# Altium footprint library fpga.PcbLib: 4 footprints (part 2 of 2)
Each footprint in its own frame and in the unit in brackets; x right, y up, seen from the top. Pads: shape width x height; smd on the part's side, far side on the other; paste and mask are expansions set on the pad; w line width, h text height; cw(c..) or ccw(c..) is an arc to the next point about the centre after c.
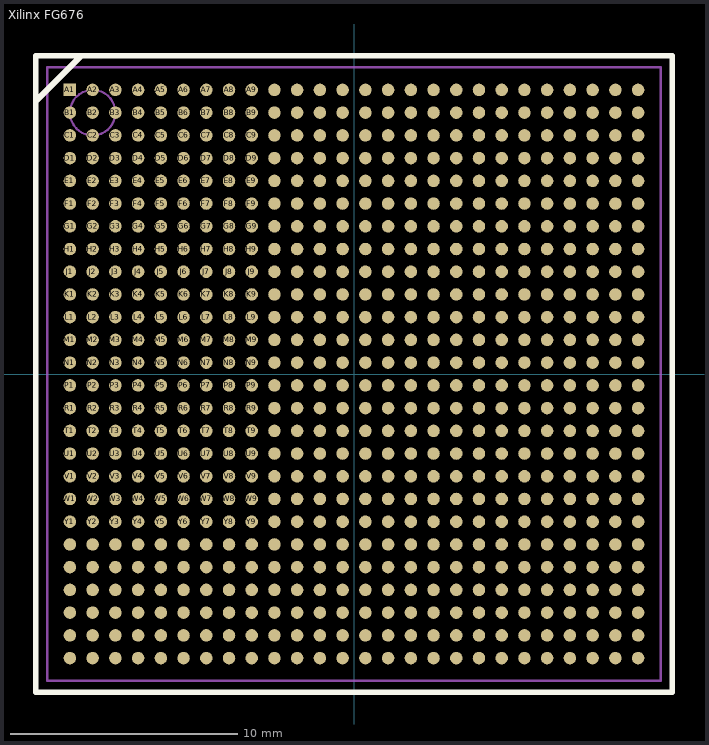
[diagram p1: the footprint, top view; thin cyan lines are the x and y axes]

## Xilinx FG676 [mm]
height 2.2
pads (676):
  rect 0.55x0.55 smd paste-0.05 mask-0.05: A1(-12.5,12.5)
  round 0.55 smd paste-0.05 mask-0.05: A2(-11.5,12.5) A3(-10.5,12.5) A4(-9.5,12.5) A5(-8.5,12.5) A6(-7.5,12.5) A7(-6.5,12.5) A8(-5.5,12.5) A9(-4.5,12.5) A10(-3.5,12.5) A11(-2.5,12.5) A12(-1.5,12.5) A13(-0.5,12.5) A14(0.5,12.5) A15(1.5,12.5) A16(2.5,12.5) A17(3.5,12.5) A18(4.5,12.5) A19(5.5,12.5) A20(6.5,12.5) A21(7.5,12.5) A22(8.5,12.5) A23(9.5,12.5) A24(10.5,12.5) A25(11.5,12.5) A26(12.5,12.5) AA1(-12.5,-7.5) AA2(-11.5,-7.5) AA3(-10.5,-7.5) AA4(-9.5,-7.5) AA5(-8.5,-7.5) AA6(-7.5,-7.5) AA7(-6.5,-7.5) AA8(-5.5,-7.5) AA9(-4.5,-7.5) AA10(-3.5,-7.5) AA11(-2.5,-7.5) AA12(-1.5,-7.5) AA13(-0.5,-7.5) AA14(0.5,-7.5) AA15(1.5,-7.5) AA16(2.5,-7.5) AA17(3.5,-7.5) AA18(4.5,-7.5) AA19(5.5,-7.5) AA20(6.5,-7.5) AA21(7.5,-7.5) AA22(8.5,-7.5) AA23(9.5,-7.5) AA24(10.5,-7.5) AA25(11.5,-7.5) AA26(12.5,-7.5) AB1(-12.5,-8.5) AB2(-11.5,-8.5) AB3(-10.5,-8.5) AB4(-9.5,-8.5) AB5(-8.5,-8.5) AB6(-7.5,-8.5) AB7(-6.5,-8.5) AB8(-5.5,-8.5) AB9(-4.5,-8.5) AB10(-3.5,-8.5) AB11(-2.5,-8.5) AB12(-1.5,-8.5) AB13(-0.5,-8.5) AB14(0.5,-8.5) AB15(1.5,-8.5) AB16(2.5,-8.5) AB17(3.5,-8.5) AB18(4.5,-8.5) AB19(5.5,-8.5) AB20(6.5,-8.5) AB21(7.5,-8.5) AB22(8.5,-8.5) AB23(9.5,-8.5) AB24(10.5,-8.5) AB25(11.5,-8.5) AB26(12.5,-8.5) AC1(-12.5,-9.5) AC2(-11.5,-9.5) AC3(-10.5,-9.5) AC4(-9.5,-9.5) AC5(-8.5,-9.5) AC6(-7.5,-9.5) AC7(-6.5,-9.5) AC8(-5.5,-9.5) AC9(-4.5,-9.5) AC10(-3.5,-9.5) AC11(-2.5,-9.5) AC12(-1.5,-9.5) AC13(-0.5,-9.5) AC14(0.5,-9.5) AC15(1.5,-9.5) AC16(2.5,-9.5) AC17(3.5,-9.5) AC18(4.5,-9.5) AC19(5.5,-9.5) AC20(6.5,-9.5) AC21(7.5,-9.5) AC22(8.5,-9.5) AC23(9.5,-9.5) AC24(10.5,-9.5) AC25(11.5,-9.5) AC26(12.5,-9.5) AD1(-12.5,-10.5) AD2(-11.5,-10.5) AD3(-10.5,-10.5) AD4(-9.5,-10.5) AD5(-8.5,-10.5) AD6(-7.5,-10.5) AD7(-6.5,-10.5) AD8(-5.5,-10.5) AD9(-4.5,-10.5) AD10(-3.5,-10.5) AD11(-2.5,-10.5) AD12(-1.5,-10.5) AD13(-0.5,-10.5) AD14(0.5,-10.5) AD15(1.5,-10.5) AD16(2.5,-10.5) AD17(3.5,-10.5) AD18(4.5,-10.5) AD19(5.5,-10.5) AD20(6.5,-10.5) AD21(7.5,-10.5) AD22(8.5,-10.5) AD23(9.5,-10.5) AD24(10.5,-10.5) AD25(11.5,-10.5) AD26(12.5,-10.5) AE1(-12.5,-11.5) AE2(-11.5,-11.5) AE3(-10.5,-11.5) AE4(-9.5,-11.5) AE5(-8.5,-11.5) AE6(-7.5,-11.5) AE7(-6.5,-11.5) AE8(-5.5,-11.5) AE9(-4.5,-11.5) AE10(-3.5,-11.5) AE11(-2.5,-11.5) AE12(-1.5,-11.5) AE13(-0.5,-11.5) AE14(0.5,-11.5) AE15(1.5,-11.5) AE16(2.5,-11.5) AE17(3.5,-11.5) AE18(4.5,-11.5) AE19(5.5,-11.5) AE20(6.5,-11.5) AE21(7.5,-11.5) AE22(8.5,-11.5) AE23(9.5,-11.5) AE24(10.5,-11.5) AE25(11.5,-11.5) AE26(12.5,-11.5) AF1(-12.5,-12.5) AF2(-11.5,-12.5) AF3(-10.5,-12.5) AF4(-9.5,-12.5) AF5(-8.5,-12.5) AF6(-7.5,-12.5) AF7(-6.5,-12.5) AF8(-5.5,-12.5) AF9(-4.5,-12.5) AF10(-3.5,-12.5) AF11(-2.5,-12.5) AF12(-1.5,-12.5) AF13(-0.5,-12.5) AF14(0.5,-12.5) AF15(1.5,-12.5) AF16(2.5,-12.5) AF17(3.5,-12.5) AF18(4.5,-12.5) AF19(5.5,-12.5) AF20(6.5,-12.5) AF21(7.5,-12.5) AF22(8.5,-12.5) AF23(9.5,-12.5) AF24(10.5,-12.5) AF25(11.5,-12.5) AF26(12.5,-12.5) B1(-12.5,11.5) B2(-11.5,11.5) B3(-10.5,11.5) B4(-9.5,11.5) B5(-8.5,11.5) B6(-7.5,11.5) B7(-6.5,11.5) B8(-5.5,11.5) B9(-4.5,11.5) B10(-3.5,11.5) B11(-2.5,11.5) B12(-1.5,11.5) B13(-0.5,11.5) B14(0.5,11.5) B15(1.5,11.5) B16(2.5,11.5) B17(3.5,11.5) B18(4.5,11.5) B19(5.5,11.5) B20(6.5,11.5) B21(7.5,11.5) B22(8.5,11.5) B23(9.5,11.5) B24(10.5,11.5) B25(11.5,11.5) B26(12.5,11.5) C1(-12.5,10.5) C2(-11.5,10.5) C3(-10.5,10.5) C4(-9.5,10.5) C5(-8.5,10.5) C6(-7.5,10.5) C7(-6.5,10.5) C8(-5.5,10.5) C9(-4.5,10.5) C10(-3.5,10.5) C11(-2.5,10.5) C12(-1.5,10.5) C13(-0.5,10.5) C14(0.5,10.5) C15(1.5,10.5) C16(2.5,10.5) C17(3.5,10.5) C18(4.5,10.5) C19(5.5,10.5) C20(6.5,10.5) C21(7.5,10.5) C22(8.5,10.5) C23(9.5,10.5) C24(10.5,10.5) C25(11.5,10.5) C26(12.5,10.5) D1(-12.5,9.5) D2(-11.5,9.5) D3(-10.5,9.5) D4(-9.5,9.5) D5(-8.5,9.5) D6(-7.5,9.5) D7(-6.5,9.5) D8(-5.5,9.5) D9(-4.5,9.5) D10(-3.5,9.5) D11(-2.5,9.5) D12(-1.5,9.5) D13(-0.5,9.5) D14(0.5,9.5) D15(1.5,9.5) D16(2.5,9.5) D17(3.5,9.5) D18(4.5,9.5) D19(5.5,9.5) D20(6.5,9.5) D21(7.5,9.5) D22(8.5,9.5) D23(9.5,9.5) D24(10.5,9.5) D25(11.5,9.5) D26(12.5,9.5) E1(-12.5,8.5) E2(-11.5,8.5) E3(-10.5,8.5) E4(-9.5,8.5) E5(-8.5,8.5) E6(-7.5,8.5) E7(-6.5,8.5) E8(-5.5,8.5) E9(-4.5,8.5) E10(-3.5,8.5) E11(-2.5,8.5) E12(-1.5,8.5) E13(-0.5,8.5) E14(0.5,8.5) E15(1.5,8.5) E16(2.5,8.5) E17(3.5,8.5) E18(4.5,8.5) E19(5.5,8.5) E20(6.5,8.5) E21(7.5,8.5) E22(8.5,8.5) E23(9.5,8.5) E24(10.5,8.5) E25(11.5,8.5) E26(12.5,8.5) F1(-12.5,7.5) F2(-11.5,7.5) F3(-10.5,7.5) F4(-9.5,7.5) F5(-8.5,7.5) F6(-7.5,7.5) F7(-6.5,7.5) F8(-5.5,7.5) F9(-4.5,7.5) F10(-3.5,7.5) F11(-2.5,7.5) F12(-1.5,7.5) F13(-0.5,7.5) F14(0.5,7.5) F15(1.5,7.5) F16(2.5,7.5) F17(3.5,7.5) F18(4.5,7.5) F19(5.5,7.5) F20(6.5,7.5) F21(7.5,7.5) F22(8.5,7.5) F23(9.5,7.5) F24(10.5,7.5) F25(11.5,7.5) F26(12.5,7.5) G1(-12.5,6.5) G2(-11.5,6.5) G3(-10.5,6.5) G4(-9.5,6.5) G5(-8.5,6.5) G6(-7.5,6.5) G7(-6.5,6.5) G8(-5.5,6.5) G9(-4.5,6.5) G10(-3.5,6.5) G11(-2.5,6.5) G12(-1.5,6.5) G13(-0.5,6.5) G14(0.5,6.5) G15(1.5,6.5) G16(2.5,6.5) G17(3.5,6.5) G18(4.5,6.5) G19(5.5,6.5) G20(6.5,6.5) G21(7.5,6.5) G22(8.5,6.5) G23(9.5,6.5) G24(10.5,6.5) G25(11.5,6.5) G26(12.5,6.5) H1(-12.5,5.5) H2(-11.5,5.5) H3(-10.5,5.5) H4(-9.5,5.5) H5(-8.5,5.5) H6(-7.5,5.5) H7(-6.5,5.5) H8(-5.5,5.5) H9(-4.5,5.5) H10(-3.5,5.5) H11(-2.5,5.5) H12(-1.5,5.5) H13(-0.5,5.5) H14(0.5,5.5) H15(1.5,5.5) H16(2.5,5.5) H17(3.5,5.5) H18(4.5,5.5) H19(5.5,5.5) H20(6.5,5.5) H21(7.5,5.5) H22(8.5,5.5) H23(9.5,5.5) H24(10.5,5.5) H25(11.5,5.5) H26(12.5,5.5) J1(-12.5,4.5) J2(-11.5,4.5) J3(-10.5,4.5) J4(-9.5,4.5) J5(-8.5,4.5) J6(-7.5,4.5) J7(-6.5,4.5) J8(-5.5,4.5) J9(-4.5,4.5) J10(-3.5,4.5) J11(-2.5,4.5) J12(-1.5,4.5) J13(-0.5,4.5) J14(0.5,4.5) J15(1.5,4.5) J16(2.5,4.5) J17(3.5,4.5) J18(4.5,4.5) J19(5.5,4.5) J20(6.5,4.5) J21(7.5,4.5) J22(8.5,4.5) J23(9.5,4.5) J24(10.5,4.5) J25(11.5,4.5) J26(12.5,4.5) K1(-12.5,3.5) K2(-11.5,3.5) K3(-10.5,3.5) K4(-9.5,3.5) K5(-8.5,3.5) K6(-7.5,3.5) K7(-6.5,3.5) K8(-5.5,3.5) K9(-4.5,3.5) K10(-3.5,3.5) K11(-2.5,3.5) K12(-1.5,3.5) K13(-0.5,3.5) K14(0.5,3.5) K15(1.5,3.5) K16(2.5,3.5) K17(3.5,3.5) K18(4.5,3.5) K19(5.5,3.5) K20(6.5,3.5) K21(7.5,3.5) K22(8.5,3.5) K23(9.5,3.5) K24(10.5,3.5) K25(11.5,3.5) K26(12.5,3.5) L1(-12.5,2.5) L2(-11.5,2.5) L3(-10.5,2.5) L4(-9.5,2.5) L5(-8.5,2.5) L6(-7.5,2.5) L7(-6.5,2.5) L8(-5.5,2.5) L9(-4.5,2.5) L10(-3.5,2.5) L11(-2.5,2.5) L12(-1.5,2.5) L13(-0.5,2.5) L14(0.5,2.5) L15(1.5,2.5) L16(2.5,2.5) L17(3.5,2.5) L18(4.5,2.5) L19(5.5,2.5) L20(6.5,2.5) L21(7.5,2.5) L22(8.5,2.5) L23(9.5,2.5) L24(10.5,2.5) L25(11.5,2.5) L26(12.5,2.5) M1(-12.5,1.5) M2(-11.5,1.5) M3(-10.5,1.5) M4(-9.5,1.5) M5(-8.5,1.5) M6(-7.5,1.5) M7(-6.5,1.5) M8(-5.5,1.5) M9(-4.5,1.5) M10(-3.5,1.5) M11(-2.5,1.5) M12(-1.5,1.5) M13(-0.5,1.5) M14(0.5,1.5) M15(1.5,1.5) M16(2.5,1.5) M17(3.5,1.5) M18(4.5,1.5) M19(5.5,1.5) M20(6.5,1.5) M21(7.5,1.5) M22(8.5,1.5) M23(9.5,1.5) M24(10.5,1.5) M25(11.5,1.5) M26(12.5,1.5) N1(-12.5,0.5) N2(-11.5,0.5) N3(-10.5,0.5) N4(-9.5,0.5) N5(-8.5,0.5) N6(-7.5,0.5) N7(-6.5,0.5) N8(-5.5,0.5) N9(-4.5,0.5) N10(-3.5,0.5) N11(-2.5,0.5) N12(-1.5,0.5) N13(-0.5,0.5) N14(0.5,0.5) N15(1.5,0.5) N16(2.5,0.5) N17(3.5,0.5) N18(4.5,0.5) N19(5.5,0.5) N20(6.5,0.5) N21(7.5,0.5) N22(8.5,0.5) N23(9.5,0.5) N24(10.5,0.5) N25(11.5,0.5) N26(12.5,0.5) P1(-12.5,-0.5) P2(-11.5,-0.5) P3(-10.5,-0.5) P4(-9.5,-0.5) P5(-8.5,-0.5) P6(-7.5,-0.5) P7(-6.5,-0.5) P8(-5.5,-0.5) P9(-4.5,-0.5) P10(-3.5,-0.5) P11(-2.5,-0.5) P12(-1.5,-0.5) P13(-0.5,-0.5) P14(0.5,-0.5) P15(1.5,-0.5) P16(2.5,-0.5) P17(3.5,-0.5) P18(4.5,-0.5) P19(5.5,-0.5) P20(6.5,-0.5) P21(7.5,-0.5) P22(8.5,-0.5) P23(9.5,-0.5) P24(10.5,-0.5) P25(11.5,-0.5) P26(12.5,-0.5) R1(-12.5,-1.5) R2(-11.5,-1.5) R3(-10.5,-1.5) R4(-9.5,-1.5) R5(-8.5,-1.5) R6(-7.5,-1.5) R7(-6.5,-1.5) R8(-5.5,-1.5) R9(-4.5,-1.5) R10(-3.5,-1.5) R11(-2.5,-1.5) R12(-1.5,-1.5) R13(-0.5,-1.5) R14(0.5,-1.5) R15(1.5,-1.5) R16(2.5,-1.5) R17(3.5,-1.5) R18(4.5,-1.5) R19(5.5,-1.5) R20(6.5,-1.5) R21(7.5,-1.5) R22(8.5,-1.5) R23(9.5,-1.5) R24(10.5,-1.5) R25(11.5,-1.5) R26(12.5,-1.5) T1(-12.5,-2.5) T2(-11.5,-2.5) T3(-10.5,-2.5) T4(-9.5,-2.5) T5(-8.5,-2.5) T6(-7.5,-2.5) T7(-6.5,-2.5) T8(-5.5,-2.5) T9(-4.5,-2.5) T10(-3.5,-2.5) T11(-2.5,-2.5) T12(-1.5,-2.5) T13(-0.5,-2.5) T14(0.5,-2.5) T15(1.5,-2.5) T16(2.5,-2.5) T17(3.5,-2.5) T18(4.5,-2.5) T19(5.5,-2.5) T20(6.5,-2.5) T21(7.5,-2.5) T22(8.5,-2.5) T23(9.5,-2.5) T24(10.5,-2.5) T25(11.5,-2.5) T26(12.5,-2.5) U1(-12.5,-3.5) U2(-11.5,-3.5) U3(-10.5,-3.5) U4(-9.5,-3.5) U5(-8.5,-3.5) U6(-7.5,-3.5) U7(-6.5,-3.5) U8(-5.5,-3.5) U9(-4.5,-3.5) U10(-3.5,-3.5) U11(-2.5,-3.5) U12(-1.5,-3.5) U13(-0.5,-3.5) U14(0.5,-3.5) U15(1.5,-3.5) U16(2.5,-3.5) U17(3.5,-3.5) U18(4.5,-3.5) U19(5.5,-3.5) U20(6.5,-3.5) U21(7.5,-3.5) U22(8.5,-3.5) U23(9.5,-3.5) U24(10.5,-3.5) U25(11.5,-3.5) U26(12.5,-3.5) V1(-12.5,-4.5) V2(-11.5,-4.5) V3(-10.5,-4.5) V4(-9.5,-4.5) V5(-8.5,-4.5) V6(-7.5,-4.5) V7(-6.5,-4.5) V8(-5.5,-4.5) V9(-4.5,-4.5) V10(-3.5,-4.5) V11(-2.5,-4.5) V12(-1.5,-4.5) V13(-0.5,-4.5) V14(0.5,-4.5) V15(1.5,-4.5) V16(2.5,-4.5) V17(3.5,-4.5) V18(4.5,-4.5) V19(5.5,-4.5) V20(6.5,-4.5) V21(7.5,-4.5) V22(8.5,-4.5) V23(9.5,-4.5) V24(10.5,-4.5) V25(11.5,-4.5) V26(12.5,-4.5) W1(-12.5,-5.5) W2(-11.5,-5.5) W3(-10.5,-5.5) W4(-9.5,-5.5) W5(-8.5,-5.5) W6(-7.5,-5.5) W7(-6.5,-5.5) W8(-5.5,-5.5) W9(-4.5,-5.5) W10(-3.5,-5.5) W11(-2.5,-5.5) W12(-1.5,-5.5) W13(-0.5,-5.5) W14(0.5,-5.5) W15(1.5,-5.5) W16(2.5,-5.5) W17(3.5,-5.5) W18(4.5,-5.5) W19(5.5,-5.5) W20(6.5,-5.5) W21(7.5,-5.5) W22(8.5,-5.5) W23(9.5,-5.5) W24(10.5,-5.5) W25(11.5,-5.5) W26(12.5,-5.5) Y1(-12.5,-6.5) Y2(-11.5,-6.5) Y3(-10.5,-6.5) Y4(-9.5,-6.5) Y5(-8.5,-6.5) Y6(-7.5,-6.5) Y7(-6.5,-6.5) Y8(-5.5,-6.5) Y9(-4.5,-6.5) Y10(-3.5,-6.5) Y11(-2.5,-6.5) Y12(-1.5,-6.5) Y13(-0.5,-6.5) Y14(0.5,-6.5) Y15(1.5,-6.5) Y16(2.5,-6.5) Y17(3.5,-6.5) Y18(4.5,-6.5) Y19(5.5,-6.5) Y20(6.5,-6.5) Y21(7.5,-6.5) Y22(8.5,-6.5) Y23(9.5,-6.5) Y24(10.5,-6.5) Y25(11.5,-6.5) Y26(12.5,-6.5)
Top Overlay:
  lines w0.25: -14,12 -12,14 ; -14,-14 14,-14 14,14 -14,14 -14,-14
Top Paste:
  drawing of 676 lines, arcs and shapes, not listed
Top Solder:
  drawing of 676 lines, arcs and shapes, not listed
Mechanical 1:
  circle w0.1: c-11.5,11.5 r1
  lines w0.1: -13.5,-13.5 13.5,-13.5 13.5,13.5 -13.5,13.5 -13.5,-13.5
3D body: height 2.2, standoff 0.7, extent -11,-11 11,11
3D body: height 1, standoff 0.4, extent -13.5,-13.5 13.5,13.5
3D body: height 0.5, standoff -0.1, extent -12.797,12.201 -12.2,12.799
3D body: height 0.5, standoff -0.1, extent -11.797,12.201 -11.2,12.799
3D body: height 0.5, standoff -0.1, extent -10.797,12.201 -10.2,12.799
3D body: height 0.5, standoff -0.1, extent -9.797,12.201 -9.2,12.799
3D body: height 0.5, standoff -0.1, extent -8.797,12.201 -8.2,12.799
3D body: height 0.5, standoff -0.1, extent -7.797,12.201 -7.2,12.799
3D body: height 0.5, standoff -0.1, extent -6.797,12.201 -6.2,12.799
3D body: height 0.5, standoff -0.1, extent 0.203,12.201 0.8,12.799
3D body: height 0.5, standoff -0.1, extent -0.797,12.201 -0.2,12.799
3D body: height 0.5, standoff -0.1, extent -1.797,12.201 -1.2,12.799
3D body: height 0.5, standoff -0.1, extent -2.797,12.201 -2.2,12.799
3D body: height 0.5, standoff -0.1, extent -3.797,12.201 -3.2,12.799
3D body: height 0.5, standoff -0.1, extent -4.797,12.201 -4.2,12.799
3D body: height 0.5, standoff -0.1, extent -5.797,12.201 -5.2,12.799
3D body: height 0.5, standoff -0.1, extent 7.203,12.201 7.8,12.799
3D body: height 0.5, standoff -0.1, extent 6.203,12.201 6.8,12.799
3D body: height 0.5, standoff -0.1, extent 5.203,12.201 5.8,12.799
3D body: height 0.5, standoff -0.1, extent 4.203,12.201 4.8,12.799
3D body: height 0.5, standoff -0.1, extent 3.203,12.201 3.8,12.799
3D body: height 0.5, standoff -0.1, extent 2.203,12.201 2.8,12.799
3D body: height 0.5, standoff -0.1, extent 1.203,12.201 1.8,12.799
3D body: height 0.5, standoff -0.1, extent 12.203,12.201 12.8,12.799
3D body: height 0.5, standoff -0.1, extent 11.203,12.201 11.8,12.799
3D body: height 0.5, standoff -0.1, extent 10.203,12.201 10.8,12.799
3D body: height 0.5, standoff -0.1, extent 9.203,12.201 9.8,12.799
3D body: height 0.5, standoff -0.1, extent 8.203,12.201 8.8,12.799
3D body: height 0.5, standoff -0.1, extent 8.203,11.201 8.8,11.799
3D body: height 0.5, standoff -0.1, extent 9.203,11.201 9.8,11.799
3D body: height 0.5, standoff -0.1, extent 10.203,11.201 10.8,11.799
3D body: height 0.5, standoff -0.1, extent 11.203,11.201 11.8,11.799
3D body: height 0.5, standoff -0.1, extent 12.203,11.201 12.8,11.799
3D body: height 0.5, standoff -0.1, extent 1.203,11.201 1.8,11.799
3D body: height 0.5, standoff -0.1, extent 2.203,11.201 2.8,11.799
3D body: height 0.5, standoff -0.1, extent 3.203,11.201 3.8,11.799
3D body: height 0.5, standoff -0.1, extent 4.203,11.201 4.8,11.799
3D body: height 0.5, standoff -0.1, extent 5.203,11.201 5.8,11.799
3D body: height 0.5, standoff -0.1, extent 6.203,11.201 6.8,11.799
3D body: height 0.5, standoff -0.1, extent 7.203,11.201 7.8,11.799
3D body: height 0.5, standoff -0.1, extent -5.797,11.201 -5.2,11.799
3D body: height 0.5, standoff -0.1, extent -4.797,11.201 -4.2,11.799
3D body: height 0.5, standoff -0.1, extent -3.797,11.201 -3.2,11.799
3D body: height 0.5, standoff -0.1, extent -2.797,11.201 -2.2,11.799
3D body: height 0.5, standoff -0.1, extent -1.797,11.201 -1.2,11.799
3D body: height 0.5, standoff -0.1, extent -0.797,11.201 -0.2,11.799
3D body: height 0.5, standoff -0.1, extent 0.203,11.201 0.8,11.799
3D body: height 0.5, standoff -0.1, extent -6.797,11.201 -6.2,11.799
3D body: height 0.5, standoff -0.1, extent -7.797,11.201 -7.2,11.799
3D body: height 0.5, standoff -0.1, extent -8.797,11.201 -8.2,11.799
3D body: height 0.5, standoff -0.1, extent -9.797,11.201 -9.2,11.799
3D body: height 0.5, standoff -0.1, extent -10.797,11.201 -10.2,11.799
3D body: height 0.5, standoff -0.1, extent -11.797,11.201 -11.2,11.799
3D body: height 0.5, standoff -0.1, extent -12.797,11.201 -12.2,11.799
3D body: height 0.5, standoff -0.1, extent -12.797,9.201 -12.2,9.799
3D body: height 0.5, standoff -0.1, extent -11.797,9.201 -11.2,9.799
3D body: height 0.5, standoff -0.1, extent -10.797,9.201 -10.2,9.799
3D body: height 0.5, standoff -0.1, extent -9.797,9.201 -9.2,9.799
3D body: height 0.5, standoff -0.1, extent -8.797,9.201 -8.2,9.799
3D body: height 0.5, standoff -0.1, extent -7.797,9.201 -7.2,9.799
3D body: height 0.5, standoff -0.1, extent -6.797,9.201 -6.2,9.799
3D body: height 0.5, standoff -0.1, extent 0.203,9.201 0.8,9.799
3D body: height 0.5, standoff -0.1, extent -0.797,9.201 -0.2,9.799
3D body: height 0.5, standoff -0.1, extent -1.797,9.201 -1.2,9.799
3D body: height 0.5, standoff -0.1, extent -2.797,9.201 -2.2,9.799
3D body: height 0.5, standoff -0.1, extent -3.797,9.201 -3.2,9.799
3D body: height 0.5, standoff -0.1, extent -4.797,9.201 -4.2,9.799
3D body: height 0.5, standoff -0.1, extent -5.797,9.201 -5.2,9.799
3D body: height 0.5, standoff -0.1, extent 7.203,9.201 7.8,9.799
3D body: height 0.5, standoff -0.1, extent 6.203,9.201 6.8,9.799
3D body: height 0.5, standoff -0.1, extent 5.203,9.201 5.8,9.799
3D body: height 0.5, standoff -0.1, extent 4.203,9.201 4.8,9.799
3D body: height 0.5, standoff -0.1, extent 3.203,9.201 3.8,9.799
3D body: height 0.5, standoff -0.1, extent 2.203,9.201 2.8,9.799
3D body: height 0.5, standoff -0.1, extent 1.203,9.201 1.8,9.799
3D body: height 0.5, standoff -0.1, extent 12.203,9.201 12.8,9.799
3D body: height 0.5, standoff -0.1, extent 11.203,9.201 11.8,9.799
3D body: height 0.5, standoff -0.1, extent 10.203,9.201 10.8,9.799
3D body: height 0.5, standoff -0.1, extent 9.203,9.201 9.8,9.799
3D body: height 0.5, standoff -0.1, extent 8.203,9.201 8.8,9.799
3D body: height 0.5, standoff -0.1, extent 8.203,10.201 8.8,10.799
3D body: height 0.5, standoff -0.1, extent 9.203,10.201 9.8,10.799
3D body: height 0.5, standoff -0.1, extent 10.203,10.201 10.8,10.799
3D body: height 0.5, standoff -0.1, extent 11.203,10.201 11.8,10.799
3D body: height 0.5, standoff -0.1, extent 12.203,10.201 12.8,10.799
3D body: height 0.5, standoff -0.1, extent 1.203,10.201 1.8,10.799
3D body: height 0.5, standoff -0.1, extent 2.203,10.201 2.8,10.799
3D body: height 0.5, standoff -0.1, extent 3.203,10.201 3.8,10.799
3D body: height 0.5, standoff -0.1, extent 4.203,10.201 4.8,10.799
3D body: height 0.5, standoff -0.1, extent 5.203,10.201 5.8,10.799
3D body: height 0.5, standoff -0.1, extent 6.203,10.201 6.8,10.799
3D body: height 0.5, standoff -0.1, extent 7.203,10.201 7.8,10.799
3D body: height 0.5, standoff -0.1, extent -5.797,10.201 -5.2,10.799
3D body: height 0.5, standoff -0.1, extent -4.797,10.201 -4.2,10.799
3D body: height 0.5, standoff -0.1, extent -3.797,10.201 -3.2,10.799
3D body: height 0.5, standoff -0.1, extent -2.797,10.201 -2.2,10.799
3D body: height 0.5, standoff -0.1, extent -1.797,10.201 -1.2,10.799
3D body: height 0.5, standoff -0.1, extent -0.797,10.201 -0.2,10.799
3D body: height 0.5, standoff -0.1, extent 0.203,10.201 0.8,10.799
3D body: height 0.5, standoff -0.1, extent -6.797,10.201 -6.2,10.799
3D body: height 0.5, standoff -0.1, extent -7.797,10.201 -7.2,10.799
3D body: height 0.5, standoff -0.1, extent -8.797,10.201 -8.2,10.799
3D body: height 0.5, standoff -0.1, extent -9.797,10.201 -9.2,10.799
3D body: height 0.5, standoff -0.1, extent -10.797,10.201 -10.2,10.799
3D body: height 0.5, standoff -0.1, extent -11.797,10.201 -11.2,10.799
3D body: height 0.5, standoff -0.1, extent -12.797,10.201 -12.2,10.799
3D body: height 0.5, standoff -0.1, extent -12.797,6.201 -12.2,6.799
3D body: height 0.5, standoff -0.1, extent -11.797,6.201 -11.2,6.799
3D body: height 0.5, standoff -0.1, extent -10.797,6.201 -10.2,6.799
3D body: height 0.5, standoff -0.1, extent -9.797,6.201 -9.2,6.799
3D body: height 0.5, standoff -0.1, extent -8.797,6.201 -8.2,6.799
3D body: height 0.5, standoff -0.1, extent -7.797,6.201 -7.2,6.799
3D body: height 0.5, standoff -0.1, extent -6.797,6.201 -6.2,6.799
3D body: height 0.5, standoff -0.1, extent 0.203,6.201 0.8,6.799
3D body: height 0.5, standoff -0.1, extent -0.797,6.201 -0.2,6.799
3D body: height 0.5, standoff -0.1, extent -1.797,6.201 -1.2,6.799
3D body: height 0.5, standoff -0.1, extent -2.797,6.201 -2.2,6.799
3D body: height 0.5, standoff -0.1, extent -3.797,6.201 -3.2,6.799
3D body: height 0.5, standoff -0.1, extent -4.797,6.201 -4.2,6.799
3D body: height 0.5, standoff -0.1, extent -5.797,6.201 -5.2,6.799
3D body: height 0.5, standoff -0.1, extent 7.203,6.201 7.8,6.799
3D body: height 0.5, standoff -0.1, extent 6.203,6.201 6.8,6.799
3D body: height 0.5, standoff -0.1, extent 5.203,6.201 5.8,6.799
3D body: height 0.5, standoff -0.1, extent 4.203,6.201 4.8,6.799
3D body: height 0.5, standoff -0.1, extent 3.203,6.201 3.8,6.799
3D body: height 0.5, standoff -0.1, extent 2.203,6.201 2.8,6.799
3D body: height 0.5, standoff -0.1, extent 1.203,6.201 1.8,6.799
3D body: height 0.5, standoff -0.1, extent 12.203,6.201 12.8,6.799
3D body: height 0.5, standoff -0.1, extent 11.203,6.201 11.8,6.799
3D body: height 0.5, standoff -0.1, extent 10.203,6.201 10.8,6.799
3D body: height 0.5, standoff -0.1, extent 9.203,6.201 9.8,6.799
3D body: height 0.5, standoff -0.1, extent 8.203,6.201 8.8,6.799
3D body: height 0.5, standoff -0.1, extent 8.203,5.201 8.8,5.799
3D body: height 0.5, standoff -0.1, extent 9.203,5.201 9.8,5.799
3D body: height 0.5, standoff -0.1, extent 10.203,5.201 10.8,5.799
3D body: height 0.5, standoff -0.1, extent 11.203,5.201 11.8,5.799
3D body: height 0.5, standoff -0.1, extent 12.203,5.201 12.8,5.799
3D body: height 0.5, standoff -0.1, extent 1.203,5.201 1.8,5.799
3D body: height 0.5, standoff -0.1, extent 2.203,5.201 2.8,5.799
3D body: height 0.5, standoff -0.1, extent 3.203,5.201 3.8,5.799
3D body: height 0.5, standoff -0.1, extent 4.203,5.201 4.8,5.799
3D body: height 0.5, standoff -0.1, extent 5.203,5.201 5.8,5.799
3D body: height 0.5, standoff -0.1, extent 6.203,5.201 6.8,5.799
3D body: height 0.5, standoff -0.1, extent 7.203,5.201 7.8,5.799
3D body: height 0.5, standoff -0.1, extent -5.797,5.201 -5.2,5.799
3D body: height 0.5, standoff -0.1, extent -4.797,5.201 -4.2,5.799
3D body: height 0.5, standoff -0.1, extent -3.797,5.201 -3.2,5.799
3D body: height 0.5, standoff -0.1, extent -2.797,5.201 -2.2,5.799
3D body: height 0.5, standoff -0.1, extent -1.797,5.201 -1.2,5.799
3D body: height 0.5, standoff -0.1, extent -0.797,5.201 -0.2,5.799
3D body: height 0.5, standoff -0.1, extent 0.203,5.201 0.8,5.799
3D body: height 0.5, standoff -0.1, extent -6.797,5.201 -6.2,5.799
3D body: height 0.5, standoff -0.1, extent -7.797,5.201 -7.2,5.799
3D body: height 0.5, standoff -0.1, extent -8.797,5.201 -8.2,5.799
3D body: height 0.5, standoff -0.1, extent -9.797,5.201 -9.2,5.799
3D body: height 0.5, standoff -0.1, extent -10.797,5.201 -10.2,5.799
3D body: height 0.5, standoff -0.1, extent -11.797,5.201 -11.2,5.799
3D body: height 0.5, standoff -0.1, extent -12.797,5.201 -12.2,5.799
3D body: height 0.5, standoff -0.1, extent -12.797,7.201 -12.2,7.799
3D body: height 0.5, standoff -0.1, extent -11.797,7.201 -11.2,7.799
3D body: height 0.5, standoff -0.1, extent -10.797,7.201 -10.2,7.799
3D body: height 0.5, standoff -0.1, extent -9.797,7.201 -9.2,7.799
3D body: height 0.5, standoff -0.1, extent -8.797,7.201 -8.2,7.799
3D body: height 0.5, standoff -0.1, extent -7.797,7.201 -7.2,7.799
3D body: height 0.5, standoff -0.1, extent -6.797,7.201 -6.2,7.799
3D body: height 0.5, standoff -0.1, extent 0.203,7.201 0.8,7.799
3D body: height 0.5, standoff -0.1, extent -0.797,7.201 -0.2,7.799
3D body: height 0.5, standoff -0.1, extent -1.797,7.201 -1.2,7.799
3D body: height 0.5, standoff -0.1, extent -2.797,7.201 -2.2,7.799
3D body: height 0.5, standoff -0.1, extent -3.797,7.201 -3.2,7.799
3D body: height 0.5, standoff -0.1, extent -4.797,7.201 -4.2,7.799
3D body: height 0.5, standoff -0.1, extent -5.797,7.201 -5.2,7.799
3D body: height 0.5, standoff -0.1, extent 7.203,7.201 7.8,7.799
3D body: height 0.5, standoff -0.1, extent 6.203,7.201 6.8,7.799
3D body: height 0.5, standoff -0.1, extent 5.203,7.201 5.8,7.799
3D body: height 0.5, standoff -0.1, extent 4.203,7.201 4.8,7.799
3D body: height 0.5, standoff -0.1, extent 3.203,7.201 3.8,7.799
3D body: height 0.5, standoff -0.1, extent 2.203,7.201 2.8,7.799
3D body: height 0.5, standoff -0.1, extent 1.203,7.201 1.8,7.799
3D body: height 0.5, standoff -0.1, extent 12.203,7.201 12.8,7.799
3D body: height 0.5, standoff -0.1, extent 11.203,7.201 11.8,7.799
3D body: height 0.5, standoff -0.1, extent 10.203,7.201 10.8,7.799
3D body: height 0.5, standoff -0.1, extent 9.203,7.201 9.8,7.799
3D body: height 0.5, standoff -0.1, extent 8.203,7.201 8.8,7.799
3D body: height 0.5, standoff -0.1, extent 8.203,8.201 8.8,8.799
3D body: height 0.5, standoff -0.1, extent 9.203,8.201 9.8,8.799
3D body: height 0.5, standoff -0.1, extent 10.203,8.201 10.8,8.799
3D body: height 0.5, standoff -0.1, extent 11.203,8.201 11.8,8.799
3D body: height 0.5, standoff -0.1, extent 12.203,8.201 12.8,8.799
3D body: height 0.5, standoff -0.1, extent 1.203,8.201 1.8,8.799
3D body: height 0.5, standoff -0.1, extent 2.203,8.201 2.8,8.799
3D body: height 0.5, standoff -0.1, extent 3.203,8.201 3.8,8.799
3D body: height 0.5, standoff -0.1, extent 4.203,8.201 4.8,8.799
3D body: height 0.5, standoff -0.1, extent 5.203,8.201 5.8,8.799
3D body: height 0.5, standoff -0.1, extent 6.203,8.201 6.8,8.799
3D body: height 0.5, standoff -0.1, extent 7.203,8.201 7.8,8.799
3D body: height 0.5, standoff -0.1, extent -5.797,8.201 -5.2,8.799
3D body: height 0.5, standoff -0.1, extent -4.797,8.201 -4.2,8.799
3D body: height 0.5, standoff -0.1, extent -3.797,8.201 -3.2,8.799
3D body: height 0.5, standoff -0.1, extent -2.797,8.201 -2.2,8.799
3D body: height 0.5, standoff -0.1, extent -1.797,8.201 -1.2,8.799
3D body: height 0.5, standoff -0.1, extent -0.797,8.201 -0.2,8.799
3D body: height 0.5, standoff -0.1, extent 0.203,8.201 0.8,8.799
3D body: height 0.5, standoff -0.1, extent -6.797,8.201 -6.2,8.799
3D body: height 0.5, standoff -0.1, extent -7.797,8.201 -7.2,8.799
3D body: height 0.5, standoff -0.1, extent -8.797,8.201 -8.2,8.799
3D body: height 0.5, standoff -0.1, extent -9.797,8.201 -9.2,8.799
3D body: height 0.5, standoff -0.1, extent -10.797,8.201 -10.2,8.799
3D body: height 0.5, standoff -0.1, extent -11.797,8.201 -11.2,8.799
3D body: height 0.5, standoff -0.1, extent -12.797,8.201 -12.2,8.799
3D body: height 0.5, standoff -0.1, extent -12.797,2.201 -12.2,2.799
3D body: height 0.5, standoff -0.1, extent -11.797,2.201 -11.2,2.799
3D body: height 0.5, standoff -0.1, extent -10.797,2.201 -10.2,2.799
3D body: height 0.5, standoff -0.1, extent -9.797,2.201 -9.2,2.799
3D body: height 0.5, standoff -0.1, extent -8.797,2.201 -8.2,2.799
3D body: height 0.5, standoff -0.1, extent -7.797,2.201 -7.2,2.799
3D body: height 0.5, standoff -0.1, extent -6.797,2.201 -6.2,2.799
3D body: height 0.5, standoff -0.1, extent 0.203,2.201 0.8,2.799
3D body: height 0.5, standoff -0.1, extent -0.797,2.201 -0.2,2.799
3D body: height 0.5, standoff -0.1, extent -1.797,2.201 -1.2,2.799
3D body: height 0.5, standoff -0.1, extent -2.797,2.201 -2.2,2.799
3D body: height 0.5, standoff -0.1, extent -3.797,2.201 -3.2,2.799
3D body: height 0.5, standoff -0.1, extent -4.797,2.201 -4.2,2.799
3D body: height 0.5, standoff -0.1, extent -5.797,2.201 -5.2,2.799
3D body: height 0.5, standoff -0.1, extent 7.203,2.201 7.8,2.799
3D body: height 0.5, standoff -0.1, extent 6.203,2.201 6.8,2.799
3D body: height 0.5, standoff -0.1, extent 5.203,2.201 5.8,2.799
3D body: height 0.5, standoff -0.1, extent 4.203,2.201 4.8,2.799
3D body: height 0.5, standoff -0.1, extent 3.203,2.201 3.8,2.799
3D body: height 0.5, standoff -0.1, extent 2.203,2.201 2.8,2.799
3D body: height 0.5, standoff -0.1, extent 1.203,2.201 1.8,2.799
3D body: height 0.5, standoff -0.1, extent 12.203,2.201 12.8,2.799
3D body: height 0.5, standoff -0.1, extent 11.203,2.201 11.8,2.799
3D body: height 0.5, standoff -0.1, extent 10.203,2.201 10.8,2.799
3D body: height 0.5, standoff -0.1, extent 9.203,2.201 9.8,2.799
3D body: height 0.5, standoff -0.1, extent 8.203,2.201 8.8,2.799
3D body: height 0.5, standoff -0.1, extent 8.203,1.201 8.8,1.799
3D body: height 0.5, standoff -0.1, extent 9.203,1.201 9.8,1.799
3D body: height 0.5, standoff -0.1, extent 10.203,1.201 10.8,1.799
3D body: height 0.5, standoff -0.1, extent 11.203,1.201 11.8,1.799
3D body: height 0.5, standoff -0.1, extent 12.203,1.201 12.8,1.799
3D body: height 0.5, standoff -0.1, extent 1.203,1.201 1.8,1.799
3D body: height 0.5, standoff -0.1, extent 2.203,1.201 2.8,1.799
3D body: height 0.5, standoff -0.1, extent 3.203,1.201 3.8,1.799
3D body: height 0.5, standoff -0.1, extent 4.203,1.201 4.8,1.799
3D body: height 0.5, standoff -0.1, extent 5.203,1.201 5.8,1.799
3D body: height 0.5, standoff -0.1, extent 6.203,1.201 6.8,1.799
3D body: height 0.5, standoff -0.1, extent 7.203,1.201 7.8,1.799
3D body: height 0.5, standoff -0.1, extent -5.797,1.201 -5.2,1.799
3D body: height 0.5, standoff -0.1, extent -4.797,1.201 -4.2,1.799
3D body: height 0.5, standoff -0.1, extent -3.797,1.201 -3.2,1.799
3D body: height 0.5, standoff -0.1, extent -2.797,1.201 -2.2,1.799
3D body: height 0.5, standoff -0.1, extent -1.797,1.201 -1.2,1.799
3D body: height 0.5, standoff -0.1, extent -0.797,1.201 -0.2,1.799
3D body: height 0.5, standoff -0.1, extent 0.203,1.201 0.8,1.799
3D body: height 0.5, standoff -0.1, extent -6.797,1.201 -6.2,1.799
3D body: height 0.5, standoff -0.1, extent -7.797,1.201 -7.2,1.799
3D body: height 0.5, standoff -0.1, extent -8.797,1.201 -8.2,1.799
3D body: height 0.5, standoff -0.1, extent -9.797,1.201 -9.2,1.799
3D body: height 0.5, standoff -0.1, extent -10.797,1.201 -10.2,1.799
3D body: height 0.5, standoff -0.1, extent -11.797,1.201 -11.2,1.799
3D body: height 0.5, standoff -0.1, extent -12.797,1.201 -12.2,1.799
3D body: height 0.5, standoff -0.1, extent -12.797,3.201 -12.2,3.799
3D body: height 0.5, standoff -0.1, extent -11.797,3.201 -11.2,3.799
3D body: height 0.5, standoff -0.1, extent -10.797,3.201 -10.2,3.799
3D body: height 0.5, standoff -0.1, extent -9.797,3.201 -9.2,3.799
3D body: height 0.5, standoff -0.1, extent -8.797,3.201 -8.2,3.799
3D body: height 0.5, standoff -0.1, extent -7.797,3.201 -7.2,3.799
3D body: height 0.5, standoff -0.1, extent -6.797,3.201 -6.2,3.799
3D body: height 0.5, standoff -0.1, extent 0.203,3.201 0.8,3.799
3D body: height 0.5, standoff -0.1, extent -0.797,3.201 -0.2,3.799
3D body: height 0.5, standoff -0.1, extent -1.797,3.201 -1.2,3.799
3D body: height 0.5, standoff -0.1, extent -2.797,3.201 -2.2,3.799
3D body: height 0.5, standoff -0.1, extent -3.797,3.201 -3.2,3.799
3D body: height 0.5, standoff -0.1, extent -4.797,3.201 -4.2,3.799
3D body: height 0.5, standoff -0.1, extent -5.797,3.201 -5.2,3.799
3D body: height 0.5, standoff -0.1, extent 7.203,3.201 7.8,3.799
3D body: height 0.5, standoff -0.1, extent 6.203,3.201 6.8,3.799
3D body: height 0.5, standoff -0.1, extent 5.203,3.201 5.8,3.799
3D body: height 0.5, standoff -0.1, extent 4.203,3.201 4.8,3.799
3D body: height 0.5, standoff -0.1, extent 3.203,3.201 3.8,3.799
3D body: height 0.5, standoff -0.1, extent 2.203,3.201 2.8,3.799
3D body: height 0.5, standoff -0.1, extent 1.203,3.201 1.8,3.799
3D body: height 0.5, standoff -0.1, extent 12.203,3.201 12.8,3.799
3D body: height 0.5, standoff -0.1, extent 11.203,3.201 11.8,3.799
3D body: height 0.5, standoff -0.1, extent 10.203,3.201 10.8,3.799
3D body: height 0.5, standoff -0.1, extent 9.203,3.201 9.8,3.799
3D body: height 0.5, standoff -0.1, extent 8.203,3.201 8.8,3.799
3D body: height 0.5, standoff -0.1, extent 8.203,4.201 8.8,4.799
3D body: height 0.5, standoff -0.1, extent 9.203,4.201 9.8,4.799
3D body: height 0.5, standoff -0.1, extent 10.203,4.201 10.8,4.799
3D body: height 0.5, standoff -0.1, extent 11.203,4.201 11.8,4.799
3D body: height 0.5, standoff -0.1, extent 12.203,4.201 12.8,4.799
3D body: height 0.5, standoff -0.1, extent 1.203,4.201 1.8,4.799
3D body: height 0.5, standoff -0.1, extent 2.203,4.201 2.8,4.799
3D body: height 0.5, standoff -0.1, extent 3.203,4.201 3.8,4.799
3D body: height 0.5, standoff -0.1, extent 4.203,4.201 4.8,4.799
3D body: height 0.5, standoff -0.1, extent 5.203,4.201 5.8,4.799
3D body: height 0.5, standoff -0.1, extent 6.203,4.201 6.8,4.799
3D body: height 0.5, standoff -0.1, extent 7.203,4.201 7.8,4.799
3D body: height 0.5, standoff -0.1, extent -5.797,4.201 -5.2,4.799
3D body: height 0.5, standoff -0.1, extent -4.797,4.201 -4.2,4.799
3D body: height 0.5, standoff -0.1, extent -3.797,4.201 -3.2,4.799
3D body: height 0.5, standoff -0.1, extent -2.797,4.201 -2.2,4.799
3D body: height 0.5, standoff -0.1, extent -1.797,4.201 -1.2,4.799
3D body: height 0.5, standoff -0.1, extent -0.797,4.201 -0.2,4.799
3D body: height 0.5, standoff -0.1, extent 0.203,4.201 0.8,4.799
3D body: height 0.5, standoff -0.1, extent -6.797,4.201 -6.2,4.799
3D body: height 0.5, standoff -0.1, extent -7.797,4.201 -7.2,4.799
3D body: height 0.5, standoff -0.1, extent -8.797,4.201 -8.2,4.799
3D body: height 0.5, standoff -0.1, extent -9.797,4.201 -9.2,4.799
3D body: height 0.5, standoff -0.1, extent -10.797,4.201 -10.2,4.799
3D body: height 0.5, standoff -0.1, extent -11.797,4.201 -11.2,4.799
3D body: height 0.5, standoff -0.1, extent -12.797,4.201 -12.2,4.799
3D body: height 0.5, standoff -0.1, extent -12.797,-1.799 -12.2,-1.201
3D body: height 0.5, standoff -0.1, extent -11.797,-1.799 -11.2,-1.201
3D body: height 0.5, standoff -0.1, extent -10.797,-1.799 -10.2,-1.201
3D body: height 0.5, standoff -0.1, extent -9.797,-1.799 -9.2,-1.201
3D body: height 0.5, standoff -0.1, extent -8.797,-1.799 -8.2,-1.201
3D body: height 0.5, standoff -0.1, extent -7.797,-1.799 -7.2,-1.201
3D body: height 0.5, standoff -0.1, extent -6.797,-1.799 -6.2,-1.201
3D body: height 0.5, standoff -0.1, extent 0.203,-1.799 0.8,-1.201
3D body: height 0.5, standoff -0.1, extent -0.797,-1.799 -0.2,-1.201
3D body: height 0.5, standoff -0.1, extent -1.797,-1.799 -1.2,-1.201
3D body: height 0.5, standoff -0.1, extent -2.797,-1.799 -2.2,-1.201
3D body: height 0.5, standoff -0.1, extent -3.797,-1.799 -3.2,-1.201
3D body: height 0.5, standoff -0.1, extent -4.797,-1.799 -4.2,-1.201
3D body: height 0.5, standoff -0.1, extent -5.797,-1.799 -5.2,-1.201
3D body: height 0.5, standoff -0.1, extent 7.203,-1.799 7.8,-1.201
3D body: height 0.5, standoff -0.1, extent 6.203,-1.799 6.8,-1.201
3D body: height 0.5, standoff -0.1, extent 5.203,-1.799 5.8,-1.201
3D body: height 0.5, standoff -0.1, extent 4.203,-1.799 4.8,-1.201
3D body: height 0.5, standoff -0.1, extent 3.203,-1.799 3.8,-1.201
3D body: height 0.5, standoff -0.1, extent 2.203,-1.799 2.8,-1.201
3D body: height 0.5, standoff -0.1, extent 1.203,-1.799 1.8,-1.201
3D body: height 0.5, standoff -0.1, extent 12.203,-1.799 12.8,-1.201
3D body: height 0.5, standoff -0.1, extent 11.203,-1.799 11.8,-1.201
3D body: height 0.5, standoff -0.1, extent 10.203,-1.799 10.8,-1.201
3D body: height 0.5, standoff -0.1, extent 9.203,-1.799 9.8,-1.201
3D body: height 0.5, standoff -0.1, extent 8.203,-1.799 8.8,-1.201
3D body: height 0.5, standoff -0.1, extent 8.203,-2.799 8.8,-2.201
3D body: height 0.5, standoff -0.1, extent 9.203,-2.799 9.8,-2.201
3D body: height 0.5, standoff -0.1, extent 10.203,-2.799 10.8,-2.201
3D body: height 0.5, standoff -0.1, extent 11.203,-2.799 11.8,-2.201
3D body: height 0.5, standoff -0.1, extent 12.203,-2.799 12.8,-2.201
3D body: height 0.5, standoff -0.1, extent 1.203,-2.799 1.8,-2.201
3D body: height 0.5, standoff -0.1, extent 2.203,-2.799 2.8,-2.201
3D body: height 0.5, standoff -0.1, extent 3.203,-2.799 3.8,-2.201
3D body: height 0.5, standoff -0.1, extent 4.203,-2.799 4.8,-2.201
3D body: height 0.5, standoff -0.1, extent 5.203,-2.799 5.8,-2.201
3D body: height 0.5, standoff -0.1, extent 6.203,-2.799 6.8,-2.201
3D body: height 0.5, standoff -0.1, extent 7.203,-2.799 7.8,-2.201
3D body: height 0.5, standoff -0.1, extent -5.797,-2.799 -5.2,-2.201
3D body: height 0.5, standoff -0.1, extent -4.797,-2.799 -4.2,-2.201
3D body: height 0.5, standoff -0.1, extent -3.797,-2.799 -3.2,-2.201
3D body: height 0.5, standoff -0.1, extent -2.797,-2.799 -2.2,-2.201
3D body: height 0.5, standoff -0.1, extent -1.797,-2.799 -1.2,-2.201
3D body: height 0.5, standoff -0.1, extent -0.797,-2.799 -0.2,-2.201
3D body: height 0.5, standoff -0.1, extent 0.203,-2.799 0.8,-2.201
3D body: height 0.5, standoff -0.1, extent -6.797,-2.799 -6.2,-2.201
3D body: height 0.5, standoff -0.1, extent -7.797,-2.799 -7.2,-2.201
3D body: height 0.5, standoff -0.1, extent -8.797,-2.799 -8.2,-2.201
3D body: height 0.5, standoff -0.1, extent -9.797,-2.799 -9.2,-2.201
3D body: height 0.5, standoff -0.1, extent -10.797,-2.799 -10.2,-2.201
3D body: height 0.5, standoff -0.1, extent -11.797,-2.799 -11.2,-2.201
3D body: height 0.5, standoff -0.1, extent -12.797,-2.799 -12.2,-2.201
3D body: height 0.5, standoff -0.1, extent -12.797,-0.799 -12.2,-0.201
3D body: height 0.5, standoff -0.1, extent -11.797,-0.799 -11.2,-0.201
3D body: height 0.5, standoff -0.1, extent -10.797,-0.799 -10.2,-0.201
3D body: height 0.5, standoff -0.1, extent -9.797,-0.799 -9.2,-0.201
3D body: height 0.5, standoff -0.1, extent -8.797,-0.799 -8.2,-0.201
3D body: height 0.5, standoff -0.1, extent -7.797,-0.799 -7.2,-0.201
3D body: height 0.5, standoff -0.1, extent -6.797,-0.799 -6.2,-0.201
3D body: height 0.5, standoff -0.1, extent 0.203,-0.799 0.8,-0.201
3D body: height 0.5, standoff -0.1, extent -0.797,-0.799 -0.2,-0.201
3D body: height 0.5, standoff -0.1, extent -1.797,-0.799 -1.2,-0.201
3D body: height 0.5, standoff -0.1, extent -2.797,-0.799 -2.2,-0.201
3D body: height 0.5, standoff -0.1, extent -3.797,-0.799 -3.2,-0.201
3D body: height 0.5, standoff -0.1, extent -4.797,-0.799 -4.2,-0.201
3D body: height 0.5, standoff -0.1, extent -5.797,-0.799 -5.2,-0.201
3D body: height 0.5, standoff -0.1, extent 7.203,-0.799 7.8,-0.201
3D body: height 0.5, standoff -0.1, extent 6.203,-0.799 6.8,-0.201
3D body: height 0.5, standoff -0.1, extent 5.203,-0.799 5.8,-0.201
3D body: height 0.5, standoff -0.1, extent 4.203,-0.799 4.8,-0.201
3D body: height 0.5, standoff -0.1, extent 3.203,-0.799 3.8,-0.201
3D body: height 0.5, standoff -0.1, extent 2.203,-0.799 2.8,-0.201
3D body: height 0.5, standoff -0.1, extent 1.203,-0.799 1.8,-0.201
3D body: height 0.5, standoff -0.1, extent 12.203,-0.799 12.8,-0.201
3D body: height 0.5, standoff -0.1, extent 11.203,-0.799 11.8,-0.201
3D body: height 0.5, standoff -0.1, extent 10.203,-0.799 10.8,-0.201
3D body: height 0.5, standoff -0.1, extent 9.203,-0.799 9.8,-0.201
3D body: height 0.5, standoff -0.1, extent 8.203,-0.799 8.8,-0.201
3D body: height 0.5, standoff -0.1, extent 8.203,0.201 8.8,0.799
3D body: height 0.5, standoff -0.1, extent 9.203,0.201 9.8,0.799
3D body: height 0.5, standoff -0.1, extent 10.203,0.201 10.8,0.799
3D body: height 0.5, standoff -0.1, extent 11.203,0.201 11.8,0.799
3D body: height 0.5, standoff -0.1, extent 12.203,0.201 12.8,0.799
3D body: height 0.5, standoff -0.1, extent 1.203,0.201 1.8,0.799
3D body: height 0.5, standoff -0.1, extent 2.203,0.201 2.8,0.799
3D body: height 0.5, standoff -0.1, extent 3.203,0.201 3.8,0.799
3D body: height 0.5, standoff -0.1, extent 4.203,0.201 4.8,0.799
3D body: height 0.5, standoff -0.1, extent 5.203,0.201 5.8,0.799
3D body: height 0.5, standoff -0.1, extent 6.203,0.201 6.8,0.799
3D body: height 0.5, standoff -0.1, extent 7.203,0.201 7.8,0.799
3D body: height 0.5, standoff -0.1, extent -5.797,0.201 -5.2,0.799
3D body: height 0.5, standoff -0.1, extent -4.797,0.201 -4.2,0.799
3D body: height 0.5, standoff -0.1, extent -3.797,0.201 -3.2,0.799
3D body: height 0.5, standoff -0.1, extent -2.797,0.201 -2.2,0.799
3D body: height 0.5, standoff -0.1, extent -1.797,0.201 -1.2,0.799
3D body: height 0.5, standoff -0.1, extent -0.797,0.201 -0.2,0.799
3D body: height 0.5, standoff -0.1, extent 0.203,0.201 0.8,0.799
3D body: height 0.5, standoff -0.1, extent -6.797,0.201 -6.2,0.799
3D body: height 0.5, standoff -0.1, extent -7.797,0.201 -7.2,0.799
3D body: height 0.5, standoff -0.1, extent -8.797,0.201 -8.2,0.799
3D body: height 0.5, standoff -0.1, extent -9.797,0.201 -9.2,0.799
3D body: height 0.5, standoff -0.1, extent -10.797,0.201 -10.2,0.799
3D body: height 0.5, standoff -0.1, extent -11.797,0.201 -11.2,0.799
3D body: height 0.5, standoff -0.1, extent -12.797,0.201 -12.2,0.799
3D body: height 0.5, standoff -0.1, extent -12.797,-5.799 -12.2,-5.201
3D body: height 0.5, standoff -0.1, extent -11.797,-5.799 -11.2,-5.201
3D body: height 0.5, standoff -0.1, extent -10.797,-5.799 -10.2,-5.201
3D body: height 0.5, standoff -0.1, extent -9.797,-5.799 -9.2,-5.201
3D body: height 0.5, standoff -0.1, extent -8.797,-5.799 -8.2,-5.201
3D body: height 0.5, standoff -0.1, extent -7.797,-5.799 -7.2,-5.201
3D body: height 0.5, standoff -0.1, extent -6.797,-5.799 -6.2,-5.201
3D body: height 0.5, standoff -0.1, extent 0.203,-5.799 0.8,-5.201
3D body: height 0.5, standoff -0.1, extent -0.797,-5.799 -0.2,-5.201
3D body: height 0.5, standoff -0.1, extent -1.797,-5.799 -1.2,-5.201
3D body: height 0.5, standoff -0.1, extent -2.797,-5.799 -2.2,-5.201
3D body: height 0.5, standoff -0.1, extent -3.797,-5.799 -3.2,-5.201
3D body: height 0.5, standoff -0.1, extent -4.797,-5.799 -4.2,-5.201
3D body: height 0.5, standoff -0.1, extent -5.797,-5.799 -5.2,-5.201
3D body: height 0.5, standoff -0.1, extent 7.203,-5.799 7.8,-5.201
3D body: height 0.5, standoff -0.1, extent 6.203,-5.799 6.8,-5.201
3D body: height 0.5, standoff -0.1, extent 5.203,-5.799 5.8,-5.201
3D body: height 0.5, standoff -0.1, extent 4.203,-5.799 4.8,-5.201
3D body: height 0.5, standoff -0.1, extent 3.203,-5.799 3.8,-5.201
3D body: height 0.5, standoff -0.1, extent 2.203,-5.799 2.8,-5.201
3D body: height 0.5, standoff -0.1, extent 1.203,-5.799 1.8,-5.201
3D body: height 0.5, standoff -0.1, extent 12.203,-5.799 12.8,-5.201
3D body: height 0.5, standoff -0.1, extent 11.203,-5.799 11.8,-5.201
3D body: height 0.5, standoff -0.1, extent 10.203,-5.799 10.8,-5.201
3D body: height 0.5, standoff -0.1, extent 9.203,-5.799 9.8,-5.201
3D body: height 0.5, standoff -0.1, extent 8.203,-5.799 8.8,-5.201
3D body: height 0.5, standoff -0.1, extent 8.203,-6.799 8.8,-6.201
3D body: height 0.5, standoff -0.1, extent 9.203,-6.799 9.8,-6.201
3D body: height 0.5, standoff -0.1, extent 10.203,-6.799 10.8,-6.201
3D body: height 0.5, standoff -0.1, extent 11.203,-6.799 11.8,-6.201
3D body: height 0.5, standoff -0.1, extent 12.203,-6.799 12.8,-6.201
3D body: height 0.5, standoff -0.1, extent 1.203,-6.799 1.8,-6.201
3D body: height 0.5, standoff -0.1, extent 2.203,-6.799 2.8,-6.201
3D body: height 0.5, standoff -0.1, extent 3.203,-6.799 3.8,-6.201
3D body: height 0.5, standoff -0.1, extent 4.203,-6.799 4.8,-6.201
3D body: height 0.5, standoff -0.1, extent 5.203,-6.799 5.8,-6.201
3D body: height 0.5, standoff -0.1, extent 6.203,-6.799 6.8,-6.201
3D body: height 0.5, standoff -0.1, extent 7.203,-6.799 7.8,-6.201
3D body: height 0.5, standoff -0.1, extent -5.797,-6.799 -5.2,-6.201
3D body: height 0.5, standoff -0.1, extent -4.797,-6.799 -4.2,-6.201
3D body: height 0.5, standoff -0.1, extent -3.797,-6.799 -3.2,-6.201
3D body: height 0.5, standoff -0.1, extent -2.797,-6.799 -2.2,-6.201
3D body: height 0.5, standoff -0.1, extent -1.797,-6.799 -1.2,-6.201
3D body: height 0.5, standoff -0.1, extent -0.797,-6.799 -0.2,-6.201
3D body: height 0.5, standoff -0.1, extent 0.203,-6.799 0.8,-6.201
3D body: height 0.5, standoff -0.1, extent -6.797,-6.799 -6.2,-6.201
3D body: height 0.5, standoff -0.1, extent -7.797,-6.799 -7.2,-6.201
3D body: height 0.5, standoff -0.1, extent -8.797,-6.799 -8.2,-6.201
3D body: height 0.5, standoff -0.1, extent -9.797,-6.799 -9.2,-6.201
3D body: height 0.5, standoff -0.1, extent -10.797,-6.799 -10.2,-6.201
3D body: height 0.5, standoff -0.1, extent -11.797,-6.799 -11.2,-6.201
3D body: height 0.5, standoff -0.1, extent -12.797,-6.799 -12.2,-6.201
3D body: height 0.5, standoff -0.1, extent -12.797,-4.799 -12.2,-4.201
3D body: height 0.5, standoff -0.1, extent -11.797,-4.799 -11.2,-4.201
3D body: height 0.5, standoff -0.1, extent -10.797,-4.799 -10.2,-4.201
3D body: height 0.5, standoff -0.1, extent -9.797,-4.799 -9.2,-4.201
3D body: height 0.5, standoff -0.1, extent -8.797,-4.799 -8.2,-4.201
3D body: height 0.5, standoff -0.1, extent -7.797,-4.799 -7.2,-4.201
3D body: height 0.5, standoff -0.1, extent -6.797,-4.799 -6.2,-4.201
3D body: height 0.5, standoff -0.1, extent 0.203,-4.799 0.8,-4.201
3D body: height 0.5, standoff -0.1, extent -0.797,-4.799 -0.2,-4.201
3D body: height 0.5, standoff -0.1, extent -1.797,-4.799 -1.2,-4.201
3D body: height 0.5, standoff -0.1, extent -2.797,-4.799 -2.2,-4.201
3D body: height 0.5, standoff -0.1, extent -3.797,-4.799 -3.2,-4.201
3D body: height 0.5, standoff -0.1, extent -4.797,-4.799 -4.2,-4.201
3D body: height 0.5, standoff -0.1, extent -5.797,-4.799 -5.2,-4.201
3D body: height 0.5, standoff -0.1, extent 7.203,-4.799 7.8,-4.201
3D body: height 0.5, standoff -0.1, extent 6.203,-4.799 6.8,-4.201
3D body: height 0.5, standoff -0.1, extent 5.203,-4.799 5.8,-4.201
3D body: height 0.5, standoff -0.1, extent 4.203,-4.799 4.8,-4.201
3D body: height 0.5, standoff -0.1, extent 3.203,-4.799 3.8,-4.201
3D body: height 0.5, standoff -0.1, extent 2.203,-4.799 2.8,-4.201
3D body: height 0.5, standoff -0.1, extent 1.203,-4.799 1.8,-4.201
3D body: height 0.5, standoff -0.1, extent 12.203,-4.799 12.8,-4.201
3D body: height 0.5, standoff -0.1, extent 11.203,-4.799 11.8,-4.201
3D body: height 0.5, standoff -0.1, extent 10.203,-4.799 10.8,-4.201
3D body: height 0.5, standoff -0.1, extent 9.203,-4.799 9.8,-4.201
3D body: height 0.5, standoff -0.1, extent 8.203,-4.799 8.8,-4.201
3D body: height 0.5, standoff -0.1, extent 8.203,-3.799 8.8,-3.201
3D body: height 0.5, standoff -0.1, extent 9.203,-3.799 9.8,-3.201
3D body: height 0.5, standoff -0.1, extent 10.203,-3.799 10.8,-3.201
3D body: height 0.5, standoff -0.1, extent 11.203,-3.799 11.8,-3.201
3D body: height 0.5, standoff -0.1, extent 12.203,-3.799 12.8,-3.201
3D body: height 0.5, standoff -0.1, extent 1.203,-3.799 1.8,-3.201
3D body: height 0.5, standoff -0.1, extent 2.203,-3.799 2.8,-3.201
3D body: height 0.5, standoff -0.1, extent 3.203,-3.799 3.8,-3.201
3D body: height 0.5, standoff -0.1, extent 4.203,-3.799 4.8,-3.201
3D body: height 0.5, standoff -0.1, extent 5.203,-3.799 5.8,-3.201
3D body: height 0.5, standoff -0.1, extent 6.203,-3.799 6.8,-3.201
3D body: height 0.5, standoff -0.1, extent 7.203,-3.799 7.8,-3.201
3D body: height 0.5, standoff -0.1, extent -5.797,-3.799 -5.2,-3.201
3D body: height 0.5, standoff -0.1, extent -4.797,-3.799 -4.2,-3.201
3D body: height 0.5, standoff -0.1, extent -3.797,-3.799 -3.2,-3.201
3D body: height 0.5, standoff -0.1, extent -2.797,-3.799 -2.2,-3.201
3D body: height 0.5, standoff -0.1, extent -1.797,-3.799 -1.2,-3.201
3D body: height 0.5, standoff -0.1, extent -0.797,-3.799 -0.2,-3.201
3D body: height 0.5, standoff -0.1, extent 0.203,-3.799 0.8,-3.201
3D body: height 0.5, standoff -0.1, extent -6.797,-3.799 -6.2,-3.201
3D body: height 0.5, standoff -0.1, extent -7.797,-3.799 -7.2,-3.201
3D body: height 0.5, standoff -0.1, extent -8.797,-3.799 -8.2,-3.201
3D body: height 0.5, standoff -0.1, extent -9.797,-3.799 -9.2,-3.201
3D body: height 0.5, standoff -0.1, extent -10.797,-3.799 -10.2,-3.201
3D body: height 0.5, standoff -0.1, extent -11.797,-3.799 -11.2,-3.201
3D body: height 0.5, standoff -0.1, extent -12.797,-3.799 -12.2,-3.201
3D body: height 0.5, standoff -0.1, extent -12.797,-9.799 -12.2,-9.201
3D body: height 0.5, standoff -0.1, extent -11.797,-9.799 -11.2,-9.201
3D body: height 0.5, standoff -0.1, extent -10.797,-9.799 -10.2,-9.201
3D body: height 0.5, standoff -0.1, extent -9.797,-9.799 -9.2,-9.201
3D body: height 0.5, standoff -0.1, extent -8.797,-9.799 -8.2,-9.201
3D body: height 0.5, standoff -0.1, extent -7.797,-9.799 -7.2,-9.201
3D body: height 0.5, standoff -0.1, extent -6.797,-9.799 -6.2,-9.201
3D body: height 0.5, standoff -0.1, extent 0.203,-9.799 0.8,-9.201
3D body: height 0.5, standoff -0.1, extent -0.797,-9.799 -0.2,-9.201
3D body: height 0.5, standoff -0.1, extent -1.797,-9.799 -1.2,-9.201
3D body: height 0.5, standoff -0.1, extent -2.797,-9.799 -2.2,-9.201
3D body: height 0.5, standoff -0.1, extent -3.797,-9.799 -3.2,-9.201
3D body: height 0.5, standoff -0.1, extent -4.797,-9.799 -4.2,-9.201
3D body: height 0.5, standoff -0.1, extent -5.797,-9.799 -5.2,-9.201
3D body: height 0.5, standoff -0.1, extent 7.203,-9.799 7.8,-9.201
3D body: height 0.5, standoff -0.1, extent 6.203,-9.799 6.8,-9.201
3D body: height 0.5, standoff -0.1, extent 5.203,-9.799 5.8,-9.201
3D body: height 0.5, standoff -0.1, extent 4.203,-9.799 4.8,-9.201
3D body: height 0.5, standoff -0.1, extent 3.203,-9.799 3.8,-9.201
3D body: height 0.5, standoff -0.1, extent 2.203,-9.799 2.8,-9.201
3D body: height 0.5, standoff -0.1, extent 1.203,-9.799 1.8,-9.201
3D body: height 0.5, standoff -0.1, extent 12.203,-9.799 12.8,-9.201
3D body: height 0.5, standoff -0.1, extent 11.203,-9.799 11.8,-9.201
3D body: height 0.5, standoff -0.1, extent 10.203,-9.799 10.8,-9.201
3D body: height 0.5, standoff -0.1, extent 9.203,-9.799 9.8,-9.201
3D body: height 0.5, standoff -0.1, extent 8.203,-9.799 8.8,-9.201
3D body: height 0.5, standoff -0.1, extent 8.203,-10.799 8.8,-10.201
3D body: height 0.5, standoff -0.1, extent 9.203,-10.799 9.8,-10.201
3D body: height 0.5, standoff -0.1, extent 10.203,-10.799 10.8,-10.201
3D body: height 0.5, standoff -0.1, extent 11.203,-10.799 11.8,-10.201
3D body: height 0.5, standoff -0.1, extent 12.203,-10.799 12.8,-10.201
3D body: height 0.5, standoff -0.1, extent 1.203,-10.799 1.8,-10.201
3D body: height 0.5, standoff -0.1, extent 2.203,-10.799 2.8,-10.201
3D body: height 0.5, standoff -0.1, extent 3.203,-10.799 3.8,-10.201
3D body: height 0.5, standoff -0.1, extent 4.203,-10.799 4.8,-10.201
3D body: height 0.5, standoff -0.1, extent 5.203,-10.799 5.8,-10.201
3D body: height 0.5, standoff -0.1, extent 6.203,-10.799 6.8,-10.201
3D body: height 0.5, standoff -0.1, extent 7.203,-10.799 7.8,-10.201
3D body: height 0.5, standoff -0.1, extent -5.797,-10.799 -5.2,-10.201
3D body: height 0.5, standoff -0.1, extent -4.797,-10.799 -4.2,-10.201
3D body: height 0.5, standoff -0.1, extent -3.797,-10.799 -3.2,-10.201
3D body: height 0.5, standoff -0.1, extent -2.797,-10.799 -2.2,-10.201
3D body: height 0.5, standoff -0.1, extent -1.797,-10.799 -1.2,-10.201
3D body: height 0.5, standoff -0.1, extent -0.797,-10.799 -0.2,-10.201
3D body: height 0.5, standoff -0.1, extent 0.203,-10.799 0.8,-10.201
3D body: height 0.5, standoff -0.1, extent -6.797,-10.799 -6.2,-10.201
3D body: height 0.5, standoff -0.1, extent -7.797,-10.799 -7.2,-10.201
3D body: height 0.5, standoff -0.1, extent -8.797,-10.799 -8.2,-10.201
3D body: height 0.5, standoff -0.1, extent -9.797,-10.799 -9.2,-10.201
3D body: height 0.5, standoff -0.1, extent -10.797,-10.799 -10.2,-10.201
3D body: height 0.5, standoff -0.1, extent -11.797,-10.799 -11.2,-10.201
3D body: height 0.5, standoff -0.1, extent -12.797,-10.799 -12.2,-10.201
3D body: height 0.5, standoff -0.1, extent -12.797,-8.799 -12.2,-8.201
3D body: height 0.5, standoff -0.1, extent -11.797,-8.799 -11.2,-8.201
3D body: height 0.5, standoff -0.1, extent -10.797,-8.799 -10.2,-8.201
3D body: height 0.5, standoff -0.1, extent -9.797,-8.799 -9.2,-8.201
3D body: height 0.5, standoff -0.1, extent -8.797,-8.799 -8.2,-8.201
3D body: height 0.5, standoff -0.1, extent -7.797,-8.799 -7.2,-8.201
3D body: height 0.5, standoff -0.1, extent -6.797,-8.799 -6.2,-8.201
3D body: height 0.5, standoff -0.1, extent 0.203,-8.799 0.8,-8.201
3D body: height 0.5, standoff -0.1, extent -0.797,-8.799 -0.2,-8.201
3D body: height 0.5, standoff -0.1, extent -1.797,-8.799 -1.2,-8.201
3D body: height 0.5, standoff -0.1, extent -2.797,-8.799 -2.2,-8.201
3D body: height 0.5, standoff -0.1, extent -3.797,-8.799 -3.2,-8.201
3D body: height 0.5, standoff -0.1, extent -4.797,-8.799 -4.2,-8.201
3D body: height 0.5, standoff -0.1, extent -5.797,-8.799 -5.2,-8.201
3D body: height 0.5, standoff -0.1, extent 7.203,-8.799 7.8,-8.201
3D body: height 0.5, standoff -0.1, extent 6.203,-8.799 6.8,-8.201
3D body: height 0.5, standoff -0.1, extent 5.203,-8.799 5.8,-8.201
3D body: height 0.5, standoff -0.1, extent 4.203,-8.799 4.8,-8.201
3D body: height 0.5, standoff -0.1, extent 3.203,-8.799 3.8,-8.201
3D body: height 0.5, standoff -0.1, extent 2.203,-8.799 2.8,-8.201
3D body: height 0.5, standoff -0.1, extent 1.203,-8.799 1.8,-8.201
3D body: height 0.5, standoff -0.1, extent 12.203,-8.799 12.8,-8.201
3D body: height 0.5, standoff -0.1, extent 11.203,-8.799 11.8,-8.201
3D body: height 0.5, standoff -0.1, extent 10.203,-8.799 10.8,-8.201
3D body: height 0.5, standoff -0.1, extent 9.203,-8.799 9.8,-8.201
3D body: height 0.5, standoff -0.1, extent 8.203,-8.799 8.8,-8.201
3D body: height 0.5, standoff -0.1, extent 8.203,-7.799 8.8,-7.201
3D body: height 0.5, standoff -0.1, extent 9.203,-7.799 9.8,-7.201
3D body: height 0.5, standoff -0.1, extent 10.203,-7.799 10.8,-7.201
3D body: height 0.5, standoff -0.1, extent 11.203,-7.799 11.8,-7.201
3D body: height 0.5, standoff -0.1, extent 12.203,-7.799 12.8,-7.201
3D body: height 0.5, standoff -0.1, extent 1.203,-7.799 1.8,-7.201
3D body: height 0.5, standoff -0.1, extent 2.203,-7.799 2.8,-7.201
3D body: height 0.5, standoff -0.1, extent 3.203,-7.799 3.8,-7.201
3D body: height 0.5, standoff -0.1, extent 4.203,-7.799 4.8,-7.201
3D body: height 0.5, standoff -0.1, extent 5.203,-7.799 5.8,-7.201
3D body: height 0.5, standoff -0.1, extent 6.203,-7.799 6.8,-7.201
3D body: height 0.5, standoff -0.1, extent 7.203,-7.799 7.8,-7.201
3D body: height 0.5, standoff -0.1, extent -5.797,-7.799 -5.2,-7.201
3D body: height 0.5, standoff -0.1, extent -4.797,-7.799 -4.2,-7.201
3D body: height 0.5, standoff -0.1, extent -3.797,-7.799 -3.2,-7.201
3D body: height 0.5, standoff -0.1, extent -2.797,-7.799 -2.2,-7.201
3D body: height 0.5, standoff -0.1, extent -1.797,-7.799 -1.2,-7.201
3D body: height 0.5, standoff -0.1, extent -0.797,-7.799 -0.2,-7.201
3D body: height 0.5, standoff -0.1, extent 0.203,-7.799 0.8,-7.201
3D body: height 0.5, standoff -0.1, extent -6.797,-7.799 -6.2,-7.201
3D body: height 0.5, standoff -0.1, extent -7.797,-7.799 -7.2,-7.201
3D body: height 0.5, standoff -0.1, extent -8.797,-7.799 -8.2,-7.201
3D body: height 0.5, standoff -0.1, extent -9.797,-7.799 -9.2,-7.201
3D body: height 0.5, standoff -0.1, extent -10.797,-7.799 -10.2,-7.201
3D body: height 0.5, standoff -0.1, extent -11.797,-7.799 -11.2,-7.201
3D body: height 0.5, standoff -0.1, extent -12.797,-7.799 -12.2,-7.201
3D body: height 0.5, standoff -0.1, extent -12.797,-12.799 -12.2,-12.201
3D body: height 0.5, standoff -0.1, extent -11.797,-12.799 -11.2,-12.201
3D body: height 0.5, standoff -0.1, extent -10.797,-12.799 -10.2,-12.201
3D body: height 0.5, standoff -0.1, extent -9.797,-12.799 -9.2,-12.201
3D body: height 0.5, standoff -0.1, extent -8.797,-12.799 -8.2,-12.201
3D body: height 0.5, standoff -0.1, extent -7.797,-12.799 -7.2,-12.201
3D body: height 0.5, standoff -0.1, extent -6.797,-12.799 -6.2,-12.201
3D body: height 0.5, standoff -0.1, extent 0.203,-12.799 0.8,-12.201
3D body: height 0.5, standoff -0.1, extent -0.797,-12.799 -0.2,-12.201
3D body: height 0.5, standoff -0.1, extent -1.797,-12.799 -1.2,-12.201
3D body: height 0.5, standoff -0.1, extent -2.797,-12.799 -2.2,-12.201
3D body: height 0.5, standoff -0.1, extent -3.797,-12.799 -3.2,-12.201
3D body: height 0.5, standoff -0.1, extent -4.797,-12.799 -4.2,-12.201
3D body: height 0.5, standoff -0.1, extent -5.797,-12.799 -5.2,-12.201
3D body: height 0.5, standoff -0.1, extent 7.203,-12.799 7.8,-12.201
3D body: height 0.5, standoff -0.1, extent 6.203,-12.799 6.8,-12.201
3D body: height 0.5, standoff -0.1, extent 5.203,-12.799 5.8,-12.201
3D body: height 0.5, standoff -0.1, extent 4.203,-12.799 4.8,-12.201
3D body: height 0.5, standoff -0.1, extent 3.203,-12.799 3.8,-12.201
3D body: height 0.5, standoff -0.1, extent 2.203,-12.799 2.8,-12.201
3D body: height 0.5, standoff -0.1, extent 1.203,-12.799 1.8,-12.201
3D body: height 0.5, standoff -0.1, extent 12.203,-12.799 12.8,-12.201
3D body: height 0.5, standoff -0.1, extent 11.203,-12.799 11.8,-12.201
3D body: height 0.5, standoff -0.1, extent 10.203,-12.799 10.8,-12.201
3D body: height 0.5, standoff -0.1, extent 9.203,-12.799 9.8,-12.201
3D body: height 0.5, standoff -0.1, extent 8.203,-12.799 8.8,-12.201
3D body: height 0.5, standoff -0.1, extent 8.203,-11.799 8.8,-11.201
3D body: height 0.5, standoff -0.1, extent 9.203,-11.799 9.8,-11.201
3D body: height 0.5, standoff -0.1, extent 10.203,-11.799 10.8,-11.201
3D body: height 0.5, standoff -0.1, extent 11.203,-11.799 11.8,-11.201
3D body: height 0.5, standoff -0.1, extent 12.203,-11.799 12.8,-11.201
3D body: height 0.5, standoff -0.1, extent 1.203,-11.799 1.8,-11.201
3D body: height 0.5, standoff -0.1, extent 2.203,-11.799 2.8,-11.201
3D body: height 0.5, standoff -0.1, extent 3.203,-11.799 3.8,-11.201
3D body: height 0.5, standoff -0.1, extent 4.203,-11.799 4.8,-11.201
3D body: height 0.5, standoff -0.1, extent 5.203,-11.799 5.8,-11.201
3D body: height 0.5, standoff -0.1, extent 6.203,-11.799 6.8,-11.201
3D body: height 0.5, standoff -0.1, extent 7.203,-11.799 7.8,-11.201
3D body: height 0.5, standoff -0.1, extent -5.797,-11.799 -5.2,-11.201
3D body: height 0.5, standoff -0.1, extent -4.797,-11.799 -4.2,-11.201
3D body: height 0.5, standoff -0.1, extent -3.797,-11.799 -3.2,-11.201
3D body: height 0.5, standoff -0.1, extent -2.797,-11.799 -2.2,-11.201
3D body: height 0.5, standoff -0.1, extent -1.797,-11.799 -1.2,-11.201
3D body: height 0.5, standoff -0.1, extent -0.797,-11.799 -0.2,-11.201
3D body: height 0.5, standoff -0.1, extent 0.203,-11.799 0.8,-11.201
3D body: height 0.5, standoff -0.1, extent -6.797,-11.799 -6.2,-11.201
3D body: height 0.5, standoff -0.1, extent -7.797,-11.799 -7.2,-11.201
3D body: height 0.5, standoff -0.1, extent -8.797,-11.799 -8.2,-11.201
3D body: height 0.5, standoff -0.1, extent -9.797,-11.799 -9.2,-11.201
3D body: height 0.5, standoff -0.1, extent -10.797,-11.799 -10.2,-11.201
3D body: height 0.5, standoff -0.1, extent -11.797,-11.799 -11.2,-11.201
3D body: height 0.5, standoff -0.1, extent -12.797,-11.799 -12.2,-11.201